# EAGLE library part P8X32A-D40 (library parallax_propeller)
Parallax Propeller P8X32A-D40 40 Pin DIP 32-bit Microprocessor http://www.parallax.com/propeller/
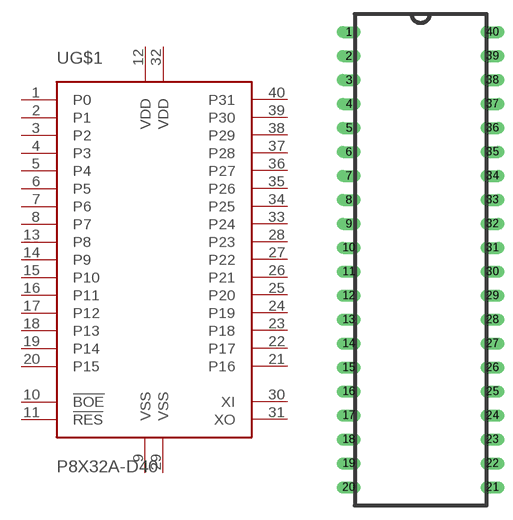
[diagram p0: symbol with the pads of DIP-40; footprint DIP-40]

Designator prefix -; gates G$1=P8X32A G$2=VDD G$3=VDD G$4=VSS G$5=VSS

## P8X32A-D40  [DIP-40]
1  G$1:P0
2  G$1:P1
3  G$1:P2
4  G$1:P3
5  G$1:P4
6  G$1:P5
7  G$1:P6
8  G$1:P7
9  G$4:VSS  in
10  G$1:!BOE  in
11  G$1:!RES
12  G$2:VDD  in
13  G$1:P8
14  G$1:P9
15  G$1:P10
16  G$1:P11
17  G$1:P12
18  G$1:P13
19  G$1:P14
20  G$1:P15
21  G$1:P16
22  G$1:P17
23  G$1:P18
24  G$1:P19
25  G$1:P20
26  G$1:P21
27  G$1:P22
28  G$1:P23
29  G$5:VSS  in
30  G$1:XI  in
31  G$1:XO  out
32  G$3:VDD  in
33  G$1:P24
34  G$1:P25
35  G$1:P26
36  G$1:P27
37  G$1:P28
38  G$1:P29
39  G$1:P30
40  G$1:P31

## Footprint DIP-40 (pad centres in mm)
DIP40
drill 0.7 pad 1.27 long: 1 -7.62,24.13; 2 -7.62,21.59; 3 -7.62,19.05; 4 -7.62,16.51; 5 -7.62,13.97; 6 -7.62,11.43; 7 -7.62,8.89; 8 -7.62,6.35; 9 -7.62,3.81; 10 -7.62,1.27; 11 -7.62,-1.27; 12 -7.62,-3.81; 13 -7.62,-6.35; 14 -7.62,-8.89; 15 -7.62,-11.43; 16 -7.62,-13.97; 17 -7.62,-16.51; 18 -7.62,-19.05; 19 -7.62,-21.59; 20 -7.62,-24.13; 21 7.62,-24.13; 22 7.62,-21.59; 23 7.62,-19.05; 24 7.62,-16.51; 25 7.62,-13.97; 26 7.62,-11.43; 27 7.62,-8.89; 28 7.62,-6.35; 29 7.62,-3.81; 30 7.62,-1.27; 31 7.62,1.27; 32 7.62,3.81; 33 7.62,6.35; 34 7.62,8.89; 35 7.62,11.43; 36 7.62,13.97; 37 7.62,16.51; 38 7.62,19.05; 39 7.62,21.59; 40 7.62,24.13